# Altium footprint library qfn_48_p50_800x800x90_l55x25_t620x620.PcbLib: 1 footprints
Each footprint in its own frame and in the unit in brackets; x right, y up, seen from the top. Pads: shape width x height; smd on the part's side, far side on the other; paste and mask are expansions set on the pad; w line width, h text height; cw(c..) or ccw(c..) is an arc to the next point about the centre after c.
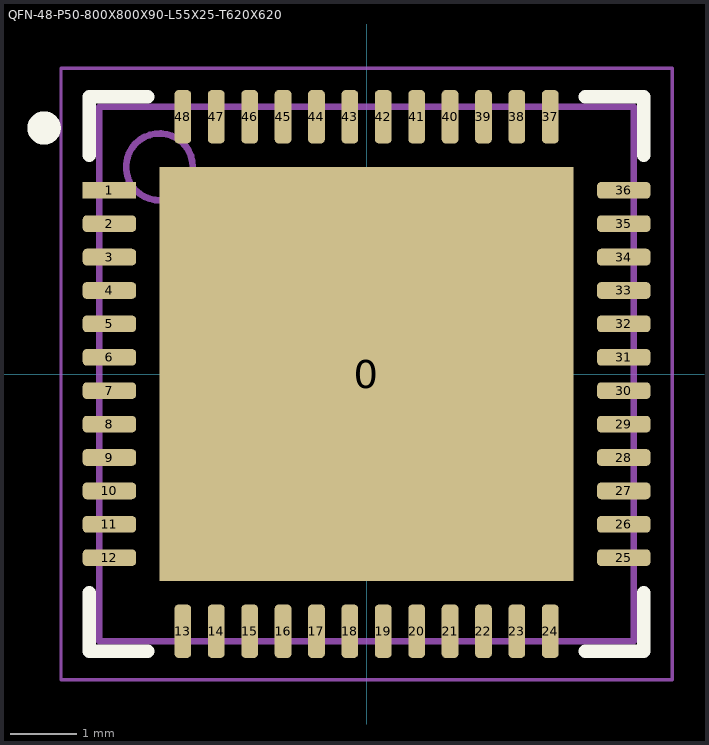
[diagram p0: the footprint, top view; thin cyan lines are the x and y axes]

## QFN-48-P50-800X800X90-L55X25-T620X620 [mm] "QFN, 48-Leads, Body 8,00x8,00mm, Pitch 0,50mm, Thermal Pad 6,20x6,20mm, IPC Medium Density"
height 0.9
pads (49):
  rect 6.2x6.2 smd: 0(0,0)
  rect 0.8x0.25 smd: 1(-3.85,2.75)
  rrect50% 0.8x0.25 smd: 2(-3.85,2.25) 3(-3.85,1.75) 4(-3.85,1.25) 5(-3.85,0.75) 6(-3.85,0.25) 7(-3.85,-0.25) 8(-3.85,-0.75) 9(-3.85,-1.25) 10(-3.85,-1.75) 11(-3.85,-2.25) 12(-3.85,-2.75) 25(3.85,-2.75) 26(3.85,-2.25) 27(3.85,-1.75) 28(3.85,-1.25) 29(3.85,-0.75) 30(3.85,-0.25) 31(3.85,0.25) 32(3.85,0.75) 33(3.85,1.25) 34(3.85,1.75) 35(3.85,2.25) 36(3.85,2.75)
  rrect50% 0.25x0.8 smd: 13(-2.75,-3.85) 14(-2.25,-3.85) 15(-1.75,-3.85) 16(-1.25,-3.85) 17(-0.75,-3.85) 18(-0.25,-3.85) 19(0.25,-3.85) 20(0.75,-3.85) 21(1.25,-3.85) 22(1.75,-3.85) 23(2.25,-3.85) 24(2.75,-3.85) 37(2.75,3.85) 38(2.25,3.85) 39(1.75,3.85) 40(1.25,3.85) 41(0.75,3.85) 42(0.25,3.85) 43(-0.25,3.85) 44(-0.75,3.85) 45(-1.25,3.85) 46(-1.75,3.85) 47(-2.25,3.85) 48(-2.75,3.85)
Top Overlay:
  circle w0.25: c-4.826,3.683 r0.125
  lines w0.2: -4.15,-3.275 -4.15,-4.15 -3.275,-4.15 ; -4.15,3.275 -4.15,4.15 -3.275,4.15 ; 3.275,-4.15 4.15,-4.15 4.15,-3.275 ; 3.275,4.15 4.15,4.15 4.15,3.275
Top Comment:
  text ".Comment" at 1.27,4.826 h1.2
Top Designator:
  text ".Designator" at -0.762,4.826 h1.2
Top Component Outline:
  circle w0.1: c-3.1,3.1 r0.5
  lines w0.1: -4,-4 -4,4 4,4 4,-4 -4,-4
Top Courtyard (Mech15):
  lines w0.05: -4.575,-4.575 4.575,-4.575 4.575,4.575 -4.575,4.575 -4.575,-4.575
  lines w0.1: -0.5,0 0.5,0 ; 0,-0.5 0,0.5
3D body "QFN-48_8x8.STEP": height 0.85, standoff 0, extent -4,-4 4,4